# EAGLE library part TMP100 (library TMP10x)
Temperature Sensor with I2C Interface Texas Instruments TMP10x
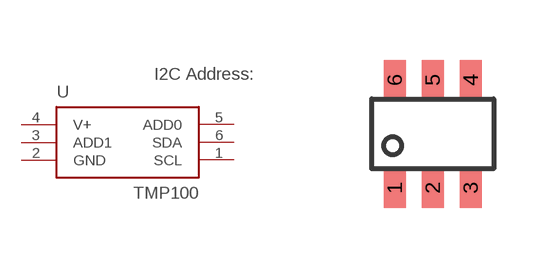
[diagram p0: symbol with the pads of SOT-23_6; footprint SOT-23_6]

Designator prefix -

## TMP100  [SOT-23_6]
1  SCL
2  GND  pwr
3  ADD1
4  V+  pwr
5  ADD0
6  SDA

## Footprint SOT-23_6 (pad centres in mm)
smd 0.55 x 1: 1 -0.95,-1.35; 2 0,-1.35; 3 0.95,-1.35; 4 0.95,1.35; 5 0,1.35; 6 -0.95,1.35